# Altium footprint library LS_MURATA_7BB-12-9.PcbLib: 1 footprints
Each footprint in its own frame and in the unit in brackets; x right, y up, seen from the top. Pads: shape width x height; smd on the part's side, far side on the other; paste and mask are expansions set on the pad; w line width, h text height; cw(c..) or ccw(c..) is an arc to the next point about the centre after c.
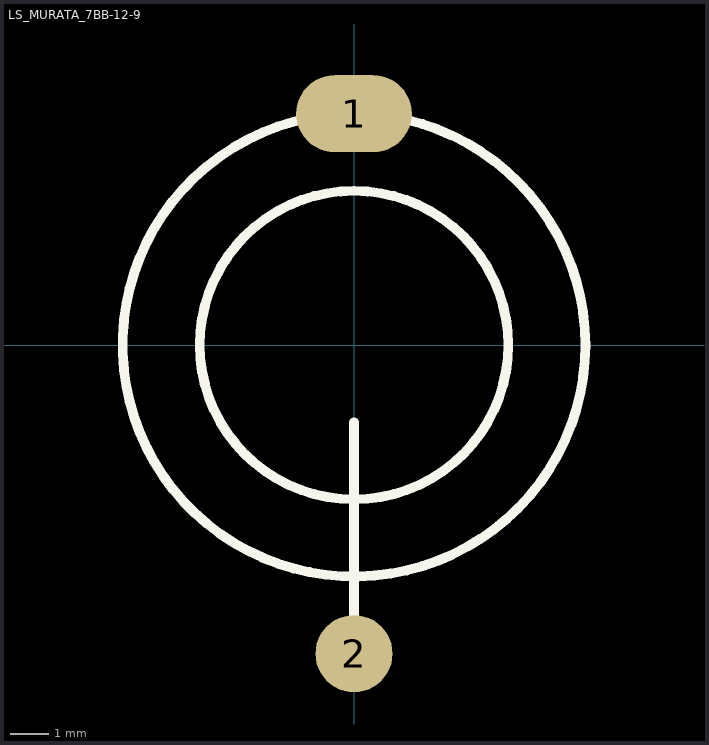
[diagram p0: the footprint, top view; thin cyan lines are the x and y axes]

## LS_MURATA_7BB-12-9 [mm]
pads (2):
  oval 3x2 smd: 1(0,6)
  round 2 smd: 2(0,-8)
Top Overlay:
  circle w0.254: c0,0 r4
  circle w0.254: c0,0 r6
  lines w0.254: 0,-8 0,-2
3D body: height 0.22, standoff 0.1, extent -3.993,-3.998 4.002,3.999
3D body: height 0.1, standoff 0, extent -5.993,-5.998 6,5.999